# EAGLE library part 1.5-INCH (library FansElectronics-7Segmen)
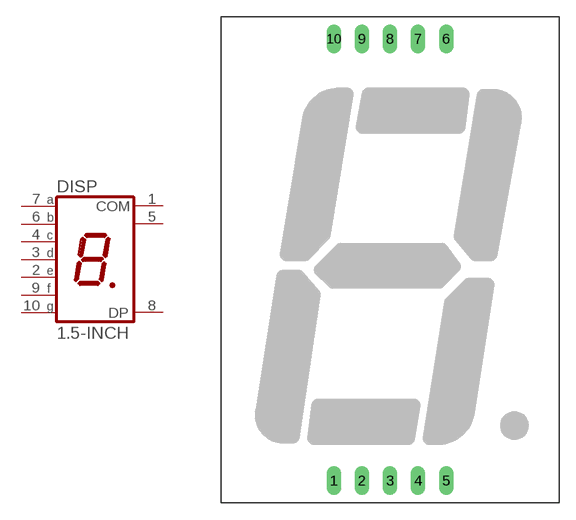
[diagram p6: symbol with the pads of 1.5"; footprint 1.5"]

Designator prefix DISP

## 1.5-INCH  [1.5"]
1  COM  pas
2  E  pas
3  D  pas
4  C  pas
5  COM  pas
6  B  pas
7  A  pas
8  DP  pas
9  F  pas
10  G  pas

## Footprint 1.5" (pad centres in mm)
drill 0.8 long: 1 -5.08,-19.35; 2 -2.54,-19.35; 3 0,-19.35; 4 2.54,-19.35; 5 5.08,-19.35; 6 5.08,20.62; 7 2.54,20.62; 8 0,20.62; 9 -2.54,20.62; 10 -5.08,20.62